# EAGLE library part PINHD-20 (library m_connector)
20 Pin Header
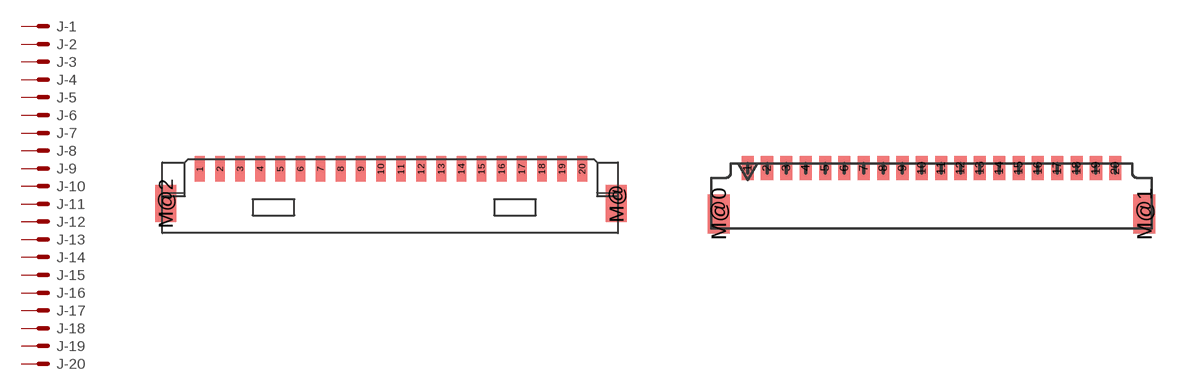
[diagram p23: symbol with the pads of MOLEX_104091-2020; footprints MOLEX_104091-2020, HIROSE-DF52-20S-0.8H]

Designator prefix J; gates -1=M -2=M -3=M -4=M -5=M -6=M -7=M -8=M -9=M -10=M -11=M -12=M -13=M -14=M -15=M -16=M -17=M -18=M -19=M -20=M

## PINHD-20ILLUMIMATE  [MOLEX_104091-2020]
1  -1:S  pas
2  -2:S  pas
3  -3:S  pas
4  -4:S  pas
5  -5:S  pas
6  -6:S  pas
7  -7:S  pas
8  -8:S  pas
9  -9:S  pas
10  -10:S  pas
11  -11:S  pas
12  -12:S  pas
13  -13:S  pas
14  -14:S  pas
15  -15:S  pas
16  -16:S  pas
17  -17:S  pas
18  -18:S  pas
19  -19:S  pas
20  -20:S  pas

## PINHD-20HIROSE-DF52 (PARTNUM: DF52-20S-0.8H(21))  [HIROSE-DF52-20S-0.8H]
Pads as for MOLEX_104091-2020

## Footprint MOLEX_104091-2020 (pad centres in mm)
IllumiMate™ 1.25mm Pitch Wire-to-Board Header, Surface Mount, Single Row, Right Angle, 20 Circuits http://www.molex.com/molex/products/datasheet.jsp?part=active/1040912020_PCB_HEADERS.xml
smd 0.6 x 1.6: 1 -11.875,1.9; 2 -10.625,1.9; 3 -9.375,1.9; 4 -8.125,1.9; 5 -6.875,1.9; 6 -5.625,1.9; 7 -4.375,1.9; 8 -3.125,1.9; 9 -1.875,1.9; 10 -0.625,1.9; 11 0.625,1.9; 12 1.875,1.9; 13 3.125,1.9; 14 4.375,1.9; 15 5.625,1.9; 16 6.875,1.9; 17 8.125,1.9; 18 9.375,1.9; 19 10.625,1.9; 20 11.875,1.9
smd 1.3 x 2.3: M@ 14,-0.25; M@2 -14,-0.25

## Footprint HIROSE-DF52-20S-0.8H (pad centres in mm)
smd 0.5 x 1: 1 -7.6,0.9; 2 -6.8,0.9; 3 -6,0.9; 4 -5.2,0.9; 5 -4.4,0.9; 6 -3.6,0.9; 7 -2.8,0.9; 8 -2,0.9; 9 -1.2,0.9; 10 -0.4,0.9; 11 0.4,0.9; 12 1.2,0.9; 13 2,0.9; 14 2.8,0.9; 15 3.6,0.9; 16 4.4,0.9; 17 5.2,0.9; 18 6,0.9; 19 6.8,0.9; 20 7.6,0.9
smd 0.9 x 1.6: M@0 -8.8,-1; M@1 8.8,-1